# EAGLE library part AA51880 (library AA51880)
Servo motor controller ic
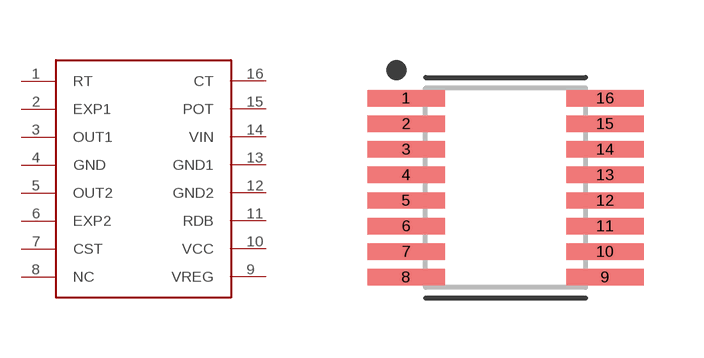
[diagram p0: symbol with the pads of SOP64P605X175-16N; footprint SOP64P605X175-16N]

Designator prefix -

## AA51880  [SOP64P605X175-16N]
1  RT
2  EXP1
3  OUT1
4  GND
5  OUT2
6  EXP2
7  CST
8  NC
9  VREG
10  VCC
11  RDB
12  GND2
13  GND1
14  VIN
15  POT
16  CT

## Footprint SOP64P605X175-16N (pad centres in mm)
16-SOP, 0.64 mm pitch, 6.05 mm span, 4.90 X 3.90 X 1.75 mm body 16-pin SOP package with 0.64 mm pitch, 6.05 mm span with body size 4.90 X 3.90 X 1.75 mm
smd 1.939 x 0.41: 1 -2.49,2.24; 2 -2.49,1.6; 3 -2.49,0.96; 4 -2.49,0.32; 5 -2.49,-0.32; 6 -2.49,-0.96; 7 -2.49,-1.6; 8 -2.49,-2.24; 9 2.49,-2.24; 10 2.49,-1.6; 11 2.49,-0.96; 12 2.49,-0.32; 13 2.49,0.32; 14 2.49,0.96; 15 2.49,1.6; 16 2.49,2.24